# EAGLE library part 2510-6002 (library PIC18F45J10_Board)
3M 2510-6002 Walled Header
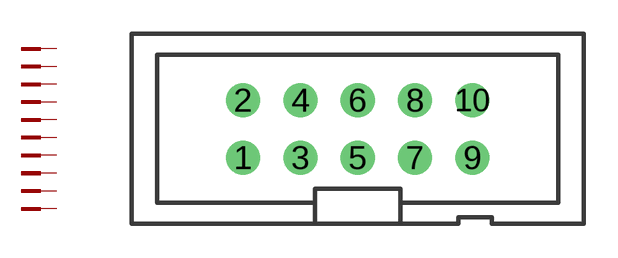
[diagram p8: symbol with the pads of 2510-6002; footprint 2510-6002]

Designator prefix -

## 2510-6002  [2510-6002]
1  KL0  pas
2  KL1  pas
3  KL2  pas
4  KL3  pas
5  KL4  pas
6  KL5  pas
7  KL6  pas
8  KL7  pas
9  KL8  pas
10  KL9  pas

## Footprint 2510-6002 (pad centres in mm)
3M 2510-6002 Walled Header
drill 1 pad 1.422: 1 -5.08,-1.27; 2 -5.08,1.27; 3 -2.54,-1.27; 4 -2.54,1.27; 5 0,-1.27; 6 0,1.27; 7 2.54,-1.27; 8 2.54,1.27; 9 5.08,-1.27; 10 5.08,1.27